# Altium footprint library Maxim_Integrated_Digital_Potentiometers.PcbLib: 6 footprints
Each footprint in its own frame and in the unit in brackets; x right, y up, seen from the top. Pads: shape width x height; smd on the part's side, far side on the other; paste and mask are expansions set on the pad; w line width, h text height; cw(c..) or ccw(c..) is an arc to the next point about the centre after c.
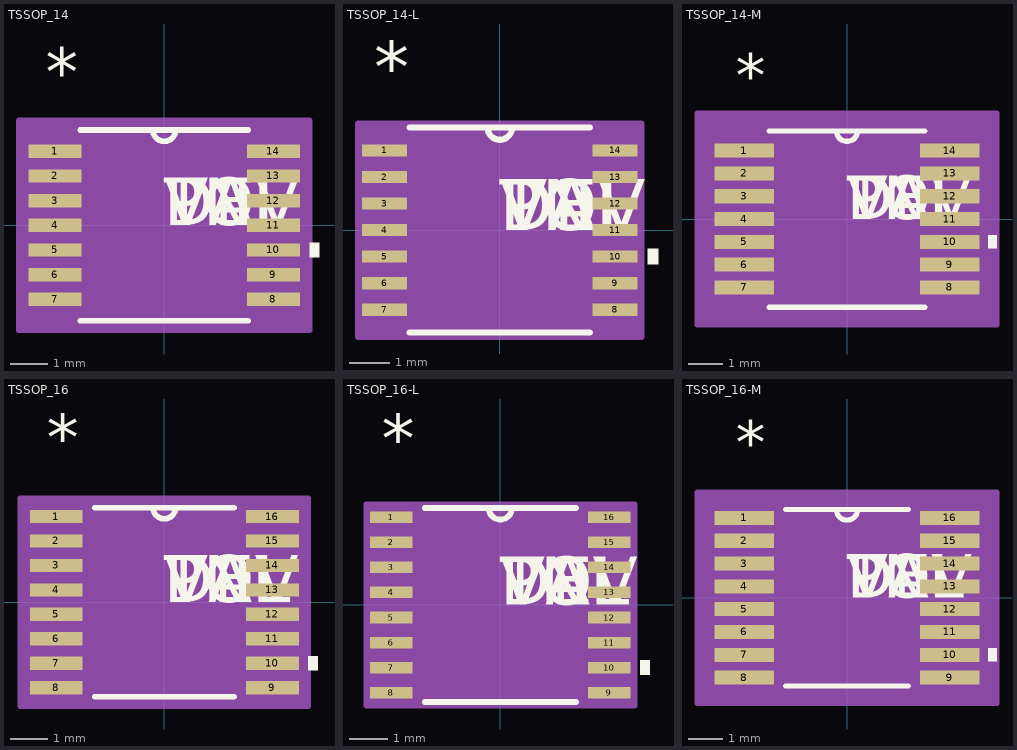
[diagram p0: the footprints below, top view; thin cyan lines are the x and y axes]

## TSSOP_14 [mil]
pads (14):
  rect 56x14 smd: 1(-115,78) 2(-115,52) 3(-115,26) 4(-115,0) 5(-115,-26) 6(-115,-52) 7(-115,-78) 8(115,-78) 9(115,-52) 10(115,-26) 11(115,0) 12(115,26) 13(115,52) 14(115,78)
Top Overlay:
  region: 153,-18.5 163,-18.5 163,-33.5 153,-33.5
  lines w6: -88.5,-100.5 88.5,-100.5 ; -88.5,100.5 88.5,100.5 ; -12,100.5 ccw(c0,100.5) 12,100.5
  text "*" at -125,137 h50
  text "PN" at 0,0 h50
  text "DEV" at 0,0 h50
  text "VAL" at 0,0 h50
  text "TOL" at 0,0 h50
Mechanical 13:
  lines w0: -12,100.5 ccw(c0,100.5) 12,100.5
  text "*" at -125,137 h50
  text "RefDes2" at 0,0 h50
Mechanical 15:
  region: 153,-110.5 -153,-110.5 -153,110.5 153,110.5
  lines w6: -153,-110.5 -153,110.5 153,110.5 153,-110.5 -153,-110.5
3D body "21-0066J_14.stp": height 43.01, standoff 0, extent -134,-100.5 124,100.5

## TSSOP_14-L [mil]
pads (14):
  rect 44x12 smd: 1(-113,78) 2(-113,52) 3(-113,26) 4(-113,0) 5(-113,-26) 6(-113,-52) 7(-113,-78) 8(113,-78) 9(113,-52) 10(113,-26) 11(113,0) 12(113,26) 13(113,52) 14(113,78)
Top Overlay:
  region: 145,-18.5 155,-18.5 155,-33.5 145,-33.5
  lines w6: -88.5,-100.5 88.5,-100.5 ; -88.5,100.5 88.5,100.5 ; -12,100.5 ccw(c0,100.5) 12,100.5
  text "*" at -123,135 h50
  text "PN" at 0,0 h50
  text "DEV" at 0,0 h50
  text "VAL" at 0,0 h50
  text "TOL" at 0,0 h50
Mechanical 13:
  lines w0: -12,100.5 ccw(c0,100.5) 12,100.5
  text "*" at -123,135 h50
  text "RefDes2" at 0,0 h50
Mechanical 15:
  region: 139,-104.5 -139,-104.5 -139,104.5 139,104.5
  lines w6: -139,-104.5 -139,104.5 139,104.5 139,-104.5 -139,-104.5
3D body "21-0066J_14-L.stp": height 43.01, standoff 0, extent -128.99,-100.49 129,100.5

## TSSOP_14-M [mil]
pads (14):
  rect 68x16 smd: 1(-117,78) 2(-117,52) 3(-117,26) 4(-117,0) 5(-117,-26) 6(-117,-52) 7(-117,-78) 8(117,-78) 9(117,-52) 10(117,-26) 11(117,0) 12(117,26) 13(117,52) 14(117,78)
Top Overlay:
  region: 161,-18.5 171,-18.5 171,-33.5 161,-33.5
  lines w6: -88.5,-100.5 88.5,-100.5 ; -88.5,100.5 88.5,100.5 ; -12,100.5 ccw(c0,100.5) 12,100.5
  text "TOL" at 0,0 h50
  text "VAL" at 0,0 h50
  text "DEV" at 0,0 h50
  text "PN" at 0,0 h50
  text "*" at -127,139 h50
Mechanical 13:
  lines w0: -12,100.5 ccw(c0,100.5) 12,100.5
  text "RefDes2" at 0,0 h50
  text "*" at -127,139 h50
Mechanical 15:
  region: 171,-120.5 -171,-120.5 -171,120.5 171,120.5
  lines w6: -171,-120.5 171,-120.5 171,120.5 -171,120.5 -171,-120.5
3D body "21-0066J_14-M.stp": height 43.01, standoff 0, extent -123.99,-100.49 134,100.51

## TSSOP_16 [mil]
pads (16):
  rect 56x14 smd: 1(-115,91) 2(-115,65) 3(-115,39) 4(-115,13) 5(-115,-13) 6(-115,-39) 7(-115,-65) 8(-115,-91) 9(115,-91) 10(115,-65) 11(115,-39) 12(115,-13) 13(115,13) 14(115,39) 15(115,65) 16(115,91)
Top Overlay:
  region: 153,-57.5 163,-57.5 163,-72.5 153,-72.5
  lines w6: -74.14,-100.5 74.14,-100.5 ; -74.14,100.5 74.14,100.5 ; -12,100.5 ccw(c0,100.5) 12,100.5
  text "*" at -125,150 h50
  text "PN" at 0,0 h50
  text "DEV" at 0,0 h50
  text "VAL" at 0,0 h50
  text "TOL" at 0,0 h50
Mechanical 13:
  lines w0: -12,100.5 ccw(c0,100.5) 12,100.5
  text "*" at -125,150 h50
  text "RefDes2" at 0,0 h50
Mechanical 15:
  region: 153,-110.5 -153,-110.5 -153,110.5 153,110.5
  lines w6: -153,-110.5 -153,110.5 153,110.5 153,-110.5 -153,-110.5
3D body "21-0066J_16.stp": height 43.01, standoff 0, extent -129,-100.5 129,100.5

## TSSOP_16-L [mil]
pads (16):
  rect 44x12 smd: 1(-113,91) 2(-113,65) 3(-113,39) 4(-113,13) 5(-113,-13) 6(-113,-39) 7(-113,-65) 8(-113,-91) 9(113,-91) 10(113,-65) 11(113,-39) 12(113,-13) 13(113,13) 14(113,39) 15(113,65) 16(113,91)
Top Overlay:
  region: 145,-57.5 155,-57.5 155,-72.5 145,-72.5
  lines w6: -78.38,-100.5 78.38,-100.5 ; -78.38,100.5 78.38,100.5 ; -12,100.5 ccw(c0,100.5) 12,100.5
  text "*" at -123,148 h50
  text "PN" at 0,0 h50
  text "DEV" at 0,0 h50
  text "VAL" at 0,0 h50
  text "TOL" at 0,0 h50
Mechanical 13:
  lines w0: -12,100.5 ccw(c0,100.5) 12,100.5
  text "*" at -123,148 h50
  text "RefDes2" at 0,0 h50
Mechanical 15:
  region: 139,-104.5 -139,-104.5 -139,104.5 139,104.5
  lines w6: -139,-104.5 -139,104.5 139,104.5 139,-104.5 -139,-104.5
3D body "21-0066J_16-L.stp": height 43.01, standoff 0, extent -128.99,-100.49 129,100.51

## TSSOP_16-M [mil]
pads (16):
  rect 68x16 smd: 1(-117,91) 2(-117,65) 3(-117,39) 4(-117,13) 5(-117,-13) 6(-117,-39) 7(-117,-65) 8(-117,-91) 9(117,-91) 10(117,-65) 11(117,-39) 12(117,-13) 13(117,13) 14(117,39) 15(117,65) 16(117,91)
Top Overlay:
  region: 161,-57.5 171,-57.5 171,-72.5 161,-72.5
  lines w6: -69.99,-100.5 69.99,-100.5 ; -69.99,100.5 69.99,100.5 ; -12,100.5 ccw(c0,100.5) 12,100.5
  text "*" at -127,152 h50
  text "PN" at 0,0 h50
  text "DEV" at 0,0 h50
  text "VAL" at 0,0 h50
  text "TOL" at 0,0 h50
Mechanical 13:
  lines w0: -12,100.5 ccw(c0,100.5) 12,100.5
  text "*" at -127,152 h50
  text "RefDes2" at 0,0 h50
Mechanical 15:
  region: 171,-120.5 -171,-120.5 -171,120.5 171,120.5
  lines w6: -171,-120.5 -171,120.5 171,120.5 171,-120.5 -171,-120.5
3D body "21-0066J_16-M.stp": height 43.01, standoff 0, extent -128.99,-100.49 129,100.51